# Altium footprint library PCB_Footprints.PcbLib: 3 footprints
Each footprint in its own frame and in the unit in brackets; x right, y up, seen from the top. Pads: shape width x height; smd on the part's side, far side on the other; paste and mask are expansions set on the pad; w line width, h text height; cw(c..) or ccw(c..) is an arc to the next point about the centre after c.
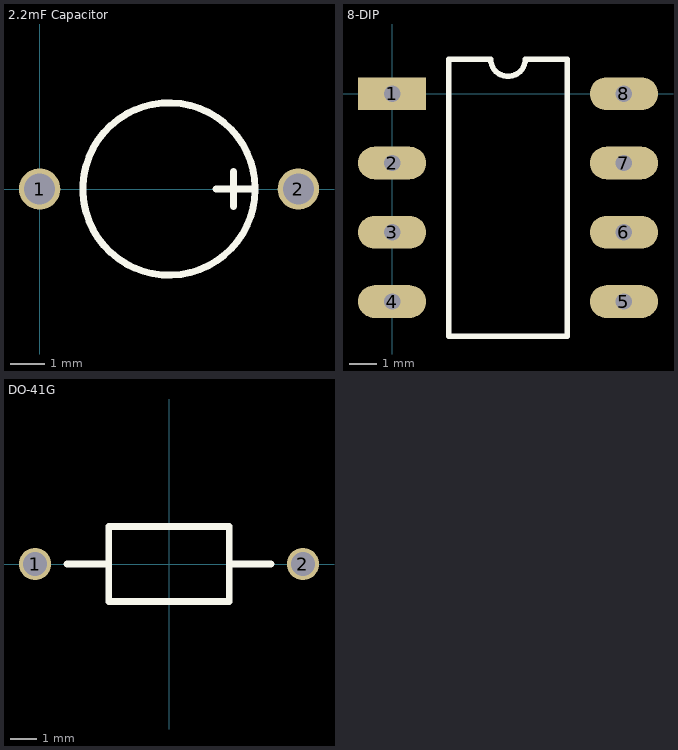
[diagram p0: the footprints below, top view; thin cyan lines are the x and y axes]

## 2.2mF Capacitor [mm]
pads (2):
  round 1.2 hole 0.9: 1(0,0) 2(7.5,0)
Top Overlay:
  circle w0.2: c3.75,0 r2.5
  lines w0.2: 5.117,0 6.133,0 ; 5.625,-0.508 5.625,0.508

## 8-DIP [mm]
pads (8):
  rect 2.5x1.2 hole 0.6: 1(0,0)
  oval 2.5x1.2 hole 0.6: 2(0,-2.54) 3(0,-5.08) 4(0,-7.62) 5(8.5,-7.62) 6(8.5,-5.08) 7(8.5,-2.54) 8(8.5,0)
Top Overlay:
  lines w0.2: 2.085,-8.89 2.085,1.27 3.615,1.27 ccw(c4.25,1.27) 4.885,1.27 6.415,1.27 6.415,-8.89 2.085,-8.89

## DO-41G [mm]
pads (2):
  round 1.2 hole 0.9: 1(-5,0) 2(5,0)
Top Overlay:
  lines w0.254: -3.81,0 -2.25,0 ; 2.25,0 3.81,0 ; -2.25,-1.4 2.25,-1.4 2.25,1.4 -2.25,1.4 -2.25,-1.4